# EAGLE library part HDR_1X12X3.5MM (library power_distro)
HEADER, MALE PINS, 1X12X3.5MM
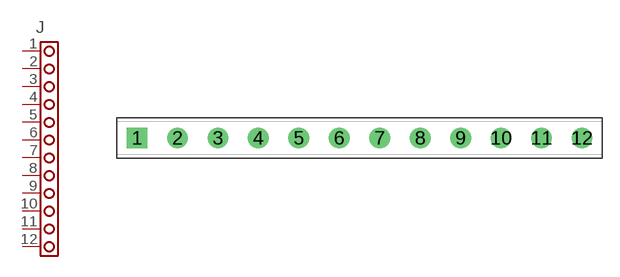
[diagram p8: symbol with the pads of 1X12X3.5MM_HDR; footprint 1X12X3.5MM_HDR]

Designator prefix J

## HDR_1X12X3.5MM (MFG: PHOENIX CONTACTS; MPN: 1945193; PRICE: 1.27; VENDOR: DIGIKEY; VPN: 277-1759-ND)  [1X12X3.5MM_HDR]
1  1  pas
2  2  pas
3  3  pas
4  4  pas
5  5  pas
6  6  pas
7  7  pas
8  8  pas
9  9  pas
10  10  pas
11  11  pas
12  12  pas

## Footprint 1X12X3.5MM_HDR (pad centres in mm)
1 ROW 12 POSITION 3.5MM PITCH HEADER
drill 1.2 square: 1 -19.25,0
drill 1.2 round: 2 -15.75,0; 3 -12.25,0; 4 -8.75,0; 5 -5.25,0; 6 -1.75,0; 7 1.75,0; 8 5.25,0; 9 8.75,0; 10 12.25,0; 11 15.75,0; 12 19.25,0